# EAGLE library part 61801529221 (library EAGLE-INPUT_OUTPUT_CONNECTORS-rev17c)
WR-DSUB Male PCB Connector with Hex Screw, 15 Pins=>Code : Con_I-O_DSUB_PCB_Male_w-screw_61801529221 <http://katalog.we-online.de/media/images/eican/Con_I-O_DSUB_PCB_Male_w-screw_6180xx29221_pf2.jpg> Details see: http://katalog.we-online.de/en/em/DSUB_MALE_PCB_CONNECTOR_W_HEX_SCREW_6180XX29221 Created 2014-07-10, Karrer Zheng 2014 (C) Würth Elektronik
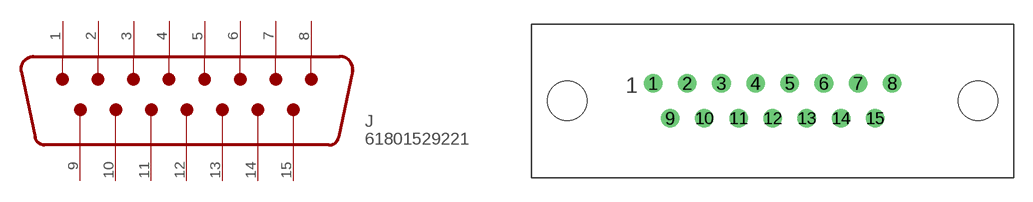
[diagram p9: symbol with the pads of 61801529221; footprint 61801529221]

Designator prefix J

## 61801529221  [61801529221]
1  1
2  2
3  3
4  4
5  5
6  6
7  7
8  8
9  9
10  10
11  11
12  12
13  13
14  14
15  15

## Footprint 61801529221 (pad centres in mm)
WR-DSUB Male PCB Connector with Hex Screw, 15 Pins
drill 1: 1 -9.695,1.42; 2 -6.925,1.42; 3 -4.155,1.42; 4 -1.385,1.42; 5 1.385,1.42; 6 4.155,1.42; 7 6.925,1.42; 8 9.695,1.42; 9 -8.31,-1.42; 10 -5.54,-1.42; 11 -2.77,-1.42; 12 0,-1.42; 13 2.77,-1.42; 14 5.54,-1.42; 15 8.31,-1.42
hole 3.2 at -16.66,0
hole 3.2 at 16.66,0